# Altium footprint library C3216X5R1A686M160AC.PcbLib: 3 footprints
Each footprint in its own frame and in the unit in brackets; x right, y up, seen from the top. Pads: shape width x height; smd on the part's side, far side on the other; paste and mask are expansions set on the pad; w line width, h text height; cw(c..) or ccw(c..) is an arc to the next point about the centre after c.
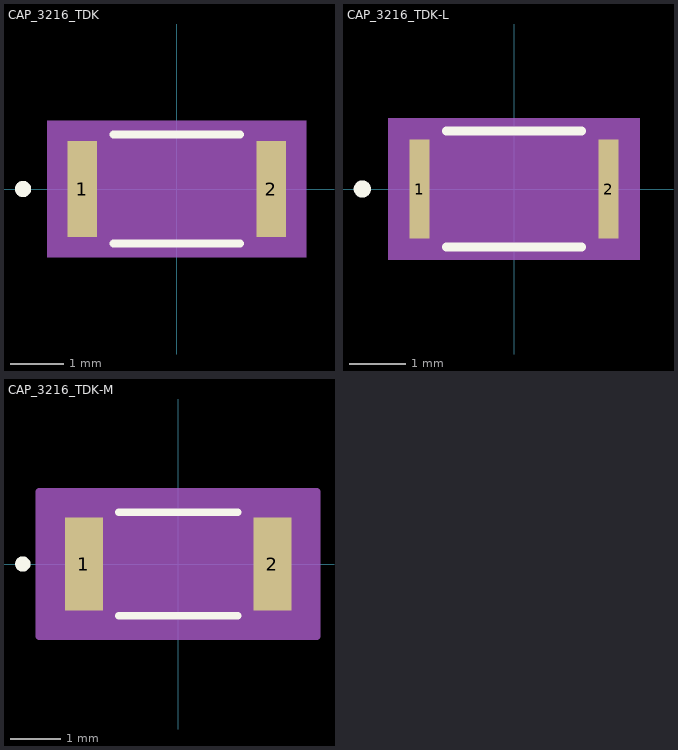
[diagram p0: the footprints below, top view; thin cyan lines are the x and y axes]

## CAP_3216_TDK [mil]
pads (2):
  rect 21.78x71 smd paste+0 mask+0: 1(-69.89,0) 2(69.89,0)
Top Overlay:
  circle w6: c-113.78,0 r3
  lines w6: -46.89,-40.5 46.89,-40.5 ; -46.89,40.5 46.89,40.5
Mechanical 5:
  region: 95.78,-50.5 -95.78,-50.5 -95.78,50.5 95.78,50.5
Mechanical 13:
  circle w0: c-64.89,0 r3
  lines w1: -67,-35.5 -67,35.5 ; -67,-35.5 -59,-35.5 -59,35.5 -67,35.5 ; -67,-35.5 67,-35.5 ; -67,-35.5 -67,35.5 ; -67,35.5 67,35.5 ; 67,-35.5 59,-35.5 59,35.5 67,35.5 ; 67,-35.5 67,35.5 ; 67,-35.5 67,35.5
Mechanical 15:
  region: 90.78,-45.5 -90.78,-45.5 -90.78,45.5 90.78,45.5
  lines w6: -90.78,-45.5 -90.78,45.5 90.78,45.5 90.78,-45.5 -90.78,-45.5
3D body "CAP_3216_TDK.step": height 49.02, standoff 0, extent -67.01,-35.51 67.01,35.51

## CAP_3216_TDK-L [mil]
pads (2):
  rect 13.91x69.03 smd paste+0 mask+0: 1(-65.95,0) 2(65.95,0)
Top Overlay:
  circle w6: c-105.91,0 r3
  lines w6: -47.35,-40.5 47.35,-40.5 ; -47.35,40.5 47.35,40.5
Mechanical 5:
  region: 87.91,-49.52 -87.91,-49.52 -87.91,49.52 87.91,49.52
Mechanical 13:
  circle w0: c-60.95,0 r3
  lines w1: -67,-35.5 -67,35.5 ; -67,-35.5 -59,-35.5 -59,35.5 -67,35.5 ; -67,-35.5 67,-35.5 ; -67,-35.5 -67,35.5 ; -67,35.5 67,35.5 ; 67,-35.5 59,-35.5 59,35.5 67,35.5 ; 67,-35.5 67,35.5 ; 67,-35.5 67,35.5
Mechanical 15:
  region: 76.91,-38.52 -76.91,-38.52 -76.91,38.52 76.91,38.52
  lines w6: -76.91,-38.52 -76.91,38.52 76.91,38.52 76.91,-38.52 -76.91,-38.52
3D body "CAP_3216_TDK.step": height 49.02, standoff 0, extent -67.01,-35.51 67.01,35.51

## CAP_3216_TDK-M [mil]
pads (2):
  rect 29.65x72.97 smd paste+0 mask+0: 1(-73.83,0) 2(73.83,0)
Top Overlay:
  circle w6: c-121.65,0 r3
  lines w6: -46.53,-40.5 46.53,-40.5 ; -46.53,40.5 46.53,40.5
Mechanical 5:
  region: 103.65,-51.48 -103.65,-51.48 -103.65,51.48 103.65,51.48
Mechanical 13:
  circle w0: c-68.83,0 r3
  lines w1: -67,-35.5 -67,35.5 ; -67,-35.5 -59,-35.5 -59,35.5 -67,35.5 ; -67,-35.5 67,-35.5 ; -67,-35.5 -67,35.5 ; -67,35.5 67,35.5 ; 67,-35.5 59,-35.5 59,35.5 67,35.5 ; 67,-35.5 67,35.5 ; 67,-35.5 67,35.5
Mechanical 15:
  region: 108.65,-56.48 -108.65,-56.48 -108.65,56.48 108.65,56.48
  lines w6: -108.65,-56.48 -108.65,56.48 108.65,56.48 108.65,-56.48 -108.65,-56.48
3D body "CAP_3216_TDK.step": height 49.02, standoff 0, extent -67.01,-35.51 67.01,35.51